# EAGLE library part CPL-MEM-512KB-EEPROM-SOICN-8 (library TinWhiskers)
EEPROM: 512KBx8; Package: SOICN-8; Datasheet: http://ww1.microchip.com/downloads/en/DeviceDoc/21795b.pdf
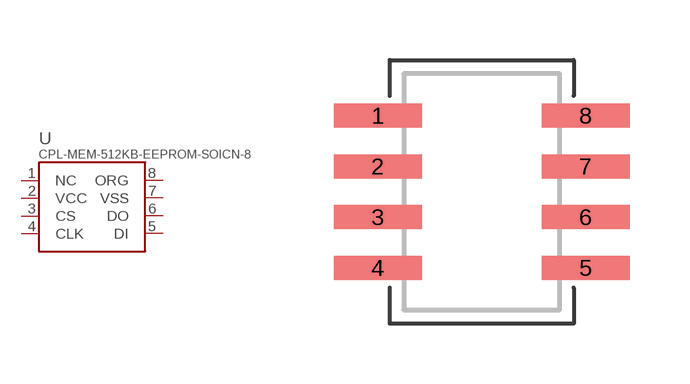
[diagram p28: symbol with the pads of SOICN-8; footprint SOICN-8]

Designator prefix U

## CPL-MEM-512KB-EEPROM-SOICN-8  [SOICN-8]
1  NC
2  VCC
3  CS
4  CLK
5  DI
6  DO
7  VSS
8  ORG

## Footprint SOICN-8 (pad centres in mm)
SOIC-8 (Narrow)
smd 2.2 x 0.6: 1 -2.6,1.905; 2 -2.6,0.635; 3 -2.6,-0.635; 4 -2.6,-1.905; 5 2.6,-1.905; 6 2.6,-0.635; 7 2.6,0.635; 8 2.6,1.905